# Altium footprint library GCMLibreriasPCB.PcbLib: 49 footprints (part 2 of 4)
Each footprint in its own frame and in the unit in brackets; x right, y up, seen from the top. Pads: shape width x height; smd on the part's side, far side on the other; paste and mask are expansions set on the pad; w line width, h text height; cw(c..) or ccw(c..) is an arc to the next point about the centre after c.
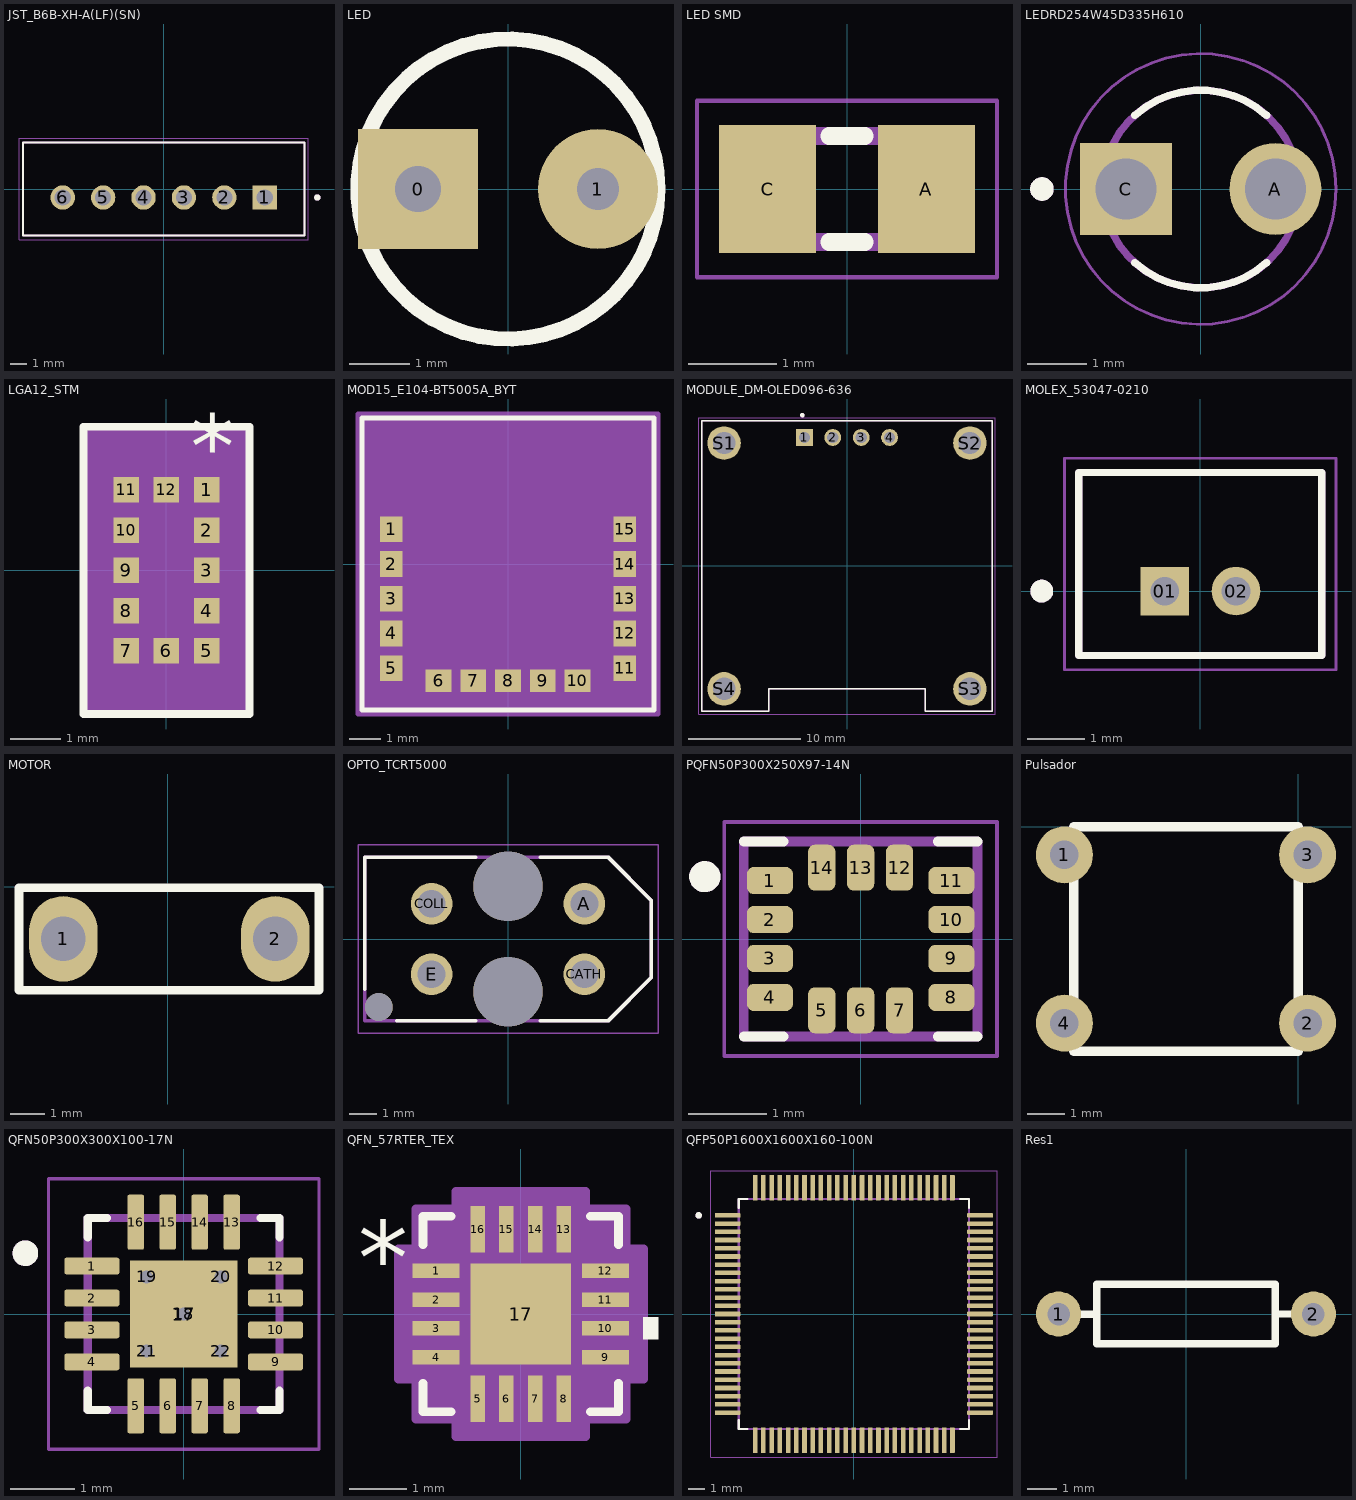
[diagram p1: the footprints below, top view; thin cyan lines are the x and y axes]

## JST_B6B-XH-A(LF)(SN) [mm]
height 7
pads (6):
  rect 1.508x1.508 / inner round 1.508 / far side rect 1.508x1.508 hole 1: 1(6.25,-0.525)
  round 1.508 hole 1: 2(3.75,-0.525) 3(1.25,-0.525) 4(-1.25,-0.525) 5(-3.75,-0.525) 6(-6.25,-0.525)
Top Overlay:
  circle w0.2: c9.5,-0.525 r0.1
  lines w0.127: -8.7,-2.875 8.7,-2.875 8.7,2.875 -8.7,2.875 -8.7,-2.875
Mechanical 13:
  circle w0.2: c9.5,-0.525 r0.1
  lines w0.127: -8.7,-2.875 8.7,-2.875 8.7,2.875 -8.7,2.875 -8.7,-2.875
Mechanical 15:
  lines w0.05: -8.95,-3.125 8.95,-3.125 8.95,3.125 -8.95,3.125 -8.95,-3.125
3D body "step_temp.STEP": height 7, standoff -3.4, extent -8.7,-2.875 8.7,2.875

## LED [mm]
pads (2):
  rect 2x2 hole 0.762: 0(-1.5,0)
  round 2 hole 0.7: 1(1.5,0)
Top Overlay:
  circle w0.254: c0,0 r2.5
3D body "WP7113LSRD.STEP": height 9.6, standoff -26, extent -2.979,-2.921 2.471,2.979

## LED SMD [mm] "0805"
pads (2):
  rect 1.1x1.45 smd: A(0.9,0) C(-0.9,0)
Top Overlay:
  lines w0.2: -0.2,-0.6 0.2,-0.6 ; -0.2,0.6 0.2,0.6
Mechanical 13:
  region: -0.5,-0.6 -1,-0.6 -1,0.6 -0.5,0.6
  region: 1,-0.6 0.5,-0.6 0.5,0.6 1,0.6
  lines w0.2: -1,-0.6 1,-0.6 1,0.6 -1,0.6 -1,-0.6
Mechanical 15:
  lines w0.05: -1.7,-1 1.7,-1 1.7,1 -1.7,1 -1.7,-1
3D body "597-5311-402F.STEP": height 0.7, standoff 0, extent -0.949,-0.65 1.051,0.6

## LEDRD254W45D335H610 [mm]
pads (2):
  round 1.56 hole 1.04: A(1.27,0)
  rect 1.56x1.56 hole 1.04: C(-1.27,0)
Top Overlay:
  circle w0.2: c-2.7,0 r0.1
  lines w0.127: -1.12,-1.25 ccw(c0,-0.006) 1.12,-1.25 ; -1.12,1.25 cw(c0,0.006) 1.12,1.25
Mechanical 13:
  circle w0.127: c0,0 r1.68
  circle w0.2: c-2.7,0 r0.1
Mechanical 15:
  circle w0.05: c0,0 r2.3

## LGA12_STM [mil]
pads (12):
  rect 20x20 smd paste+0 mask+0: 1(31.5,62.99) 2(31.5,31.5) 3(31.5,0) 4(31.5,-31.5) 5(31.5,-62.99) 6(0,-62.99) 7(-31.5,-62.99) 8(-31.5,-31.5) 9(-31.5,0) 10(-31.5,31.5) 11(-31.5,62.99) 12(0,62.99)
Top Overlay:
  lines w6: -65,-112.5 -65,112.5 65,112.5 65,-112.5 -65,-112.5
  text "*" at 19,72.5 h50
Mechanical 13:
  lines w1: 0,97.5 50,47.5 ; -50,-97.5 -50,97.5 50,97.5 50,-97.5 -50,-97.5
  text "*" at 37.5,37.99 h50
Mechanical 15:
  region: -20,-107.5 -60,-107.5 -60,-82.99 -60,82.99 -60,107.5 -20,107.5 20,107.5 60,107.5 60,82.99 60,-82.99 60,-107.5 20,-107.5
  lines w6: -60,-107.5 -20,-107.5 20,-107.5 60,-107.5 60,-82.99 60,82.99 60,107.5 20,107.5 -20,107.5 -60,107.5 -60,82.99 -60,-82.99 -60,-107.5

## MOD15_E104-BT5005A_BYT [mil]
pads (15):
  rect 28x32 smd paste+0 mask+0: 1(-145.67,43.31) 2(-145.67,0) 3(-145.67,-43.31) 4(-145.67,-86.61) 5(-145.67,-129.92) 11(145.67,-129.92) 12(145.67,-86.61) 13(145.67,-43.31) 14(145.67,0) 15(145.67,43.31)
  rect 32x28 smd paste+0 mask+0: 6(-86.61,-145.67) 7(-43.31,-145.67) 8(0,-145.67) 9(43.31,-145.67) 10(86.61,-145.67)
Top Overlay:
  lines w6: -182,-182 -182,182 182,182 182,-182 -182,-182
Mechanical 13:
  lines w1: -177,-177 177,-177 177,177 -177,177 -177,-177
Mechanical 15:
  region: -187,-187 187,-187 187,187 -187,187
  lines w6: -187,-187 187,-187 187,187 -187,187 -187,-187

## MODULE_DM-OLED096-636 [mm]
height 11.3
pads (8):
  rect 1.508x1.508 / inner round 1.508 / far side rect 1.508x1.508 hole 1: 1(-3.81,11.5)
  round 1.508 hole 1: 2(-1.27,11.5) 3(1.27,11.5) 4(3.81,11.5)
  round 3 hole 2: S1(-11,11) S2(11,11) S3(11,-11) S4(-11,-11)
Top Overlay:
  circle w0.2: c-4,13.5 r0.1
  lines w0.127: -13,-13 -13,13 13,13 13,-13 7,-13 7,-11 -7,-11 -7,-13 -13,-13
Mechanical 13:
  circle w0.2: c-4,13.5 r0.1
  lines w0.127: -13,-13 -13,13 13,13 13,-13 7,-13 7,-11 -7,-11 -7,-13 -13,-13
Mechanical 15:
  lines w0.05: -13.25,-13.25 -13.25,13.25 13.25,13.25 13.25,-13.25 -13.25,-13.25
3D body "step_temp.STEP": height 5.66, standoff -5.64, extent -13,-13 13,13

## MOLEX_53047-0210 [mm]
pads (2):
  rect 0.85x0.85 / inner round 0.85 / far side rect 0.85x0.85 hole 0.5: 01(-0.625,0)
  round 0.85 hole 0.5: 02(0.625,0)
Top Overlay:
  circle w0.2: c-2.775,0 r0.1
  lines w0.127: -2.125,-1.125 -2.125,2.075 2.125,2.075 2.125,-1.125 -2.125,-1.125
Mechanical 13:
  circle w0.2: c-2.775,0 r0.1
  lines w0.127: -2.125,-1.125 -2.125,2.075 2.125,2.075 2.125,-1.125 -2.125,-1.125
Mechanical 15:
  lines w0.05: -2.375,-1.375 -2.375,2.325 2.375,2.325 2.375,-1.375 -2.375,-1.375

## MOTOR [mm]
pads (2):
  oval 2x2.5 hole 1.3: 1(-3.048,-1.524) 2(3.152,-1.524)
Top Overlay:
  lines w0.254: -4.346,-3.025 -4.346,-0.028 4.427,-0.028 4.427,-3.025 -4.346,-3.025
3D body "1717T_SR.stp": height 8.5, standoff -8.5, extent -8.359,-3.175 8.613,26.125
3D body "MTMM-101-05-T-S-208.stp": height 6.78, standoff -2.79, extent -4.048,-2.523 -2.048,-0.524
3D body "MTMM-101-05-T-S-208.stp": height 6.78, standoff -2.79, extent 2.152,-2.523 4.152,-0.524

## OPTO_TCRT5000 [mm]
pads (7):
  round 1.5 hole 1: A(2.75,1.27) CATH(2.75,-1.27) COLL(-2.75,1.27) E(-2.75,-1.27)
  round 1 hole 1 unplated: ""(-4.65,-2.45)
  round 2.5 hole 2.5 unplated: ""(0,-1.9) ""(0,1.9)
Top Overlay:
  lines w0.127: -5.15,-1.8 -5.15,2.95 -1.17,2.95 ; -4,-2.95 -1.17,-2.95 ; 1.17,-2.95 3.6,-2.95 5.15,-1.4 5.15,1.4 3.6,2.95 1.17,2.95
Mechanical 13:
  lines w0.127: -5.15,-2.95 -5.15,2.95 3.6,2.95 5.15,1.4 5.15,-1.4 3.6,-2.95 -5.15,-2.95
Mechanical 15:
  lines w0.05: -5.4,-3.4 -5.4,3.4 5.4,3.4 5.4,-3.4 -5.4,-3.4

## PQFN50P300X250X97-14N [mm]
pads (14):
  rrect50% 0.59x0.35 smd mask+0: 1(-1.165,0.75) 2(-1.165,0.25) 3(-1.165,-0.25) 4(-1.165,-0.75) 8(1.165,-0.75) 9(1.165,-0.25) 10(1.165,0.25) 11(1.165,0.75)
  rrect50% 0.35x0.59 smd mask+0: 5(-0.5,-0.915) 6(0,-0.915) 7(0.5,-0.915) 12(0.5,0.915) 13(0,0.915) 14(-0.5,0.915)
Top Overlay:
  circle w0.2: c-2,0.8 r0.1
  lines w0.127: -1.5,-1.25 -0.99,-1.25 ; -1.5,1.25 -0.99,1.25 ; 0.99,-1.25 1.5,-1.25 ; 0.99,1.25 1.5,1.25
Top Solder:
  drawing of 14 lines, arcs and shapes, not listed
Mechanical 13:
  circle w0.2: c-2,0.8 r0.1
  lines w0.127: -1.5,-1.25 -1.5,1.25 1.5,1.25 1.5,-1.25 -1.5,-1.25
Mechanical 15:
  lines w0.05: -1.75,-1.5 -1.75,1.5 1.75,1.5 1.75,-1.5 -1.75,-1.5
3D body "ICM-42688-P--3DModel-STEP-1.STEP": height 0.97, standoff 0, extent -1.5,-1.27 1.5,1.23

## Pulsador [mil]
pads (4):
  round 60 hole 30: 1(-246.06,-29.53) 2(9.84,-206.69) 3(9.84,-29.53) 4(-246.06,-206.69)
Top Overlay:
  lines w10: -236.22,-236.22 0,-236.22 0,0 -236.22,0 -236.22,-236.22

## QFN50P300X300X100-17N [mm]
pads (22):
  rrect25% 0.86x0.26 smd: 1(-1.435,0.75) 2(-1.435,0.25) 3(-1.435,-0.25) 4(-1.435,-0.75) 9(1.435,-0.75) 10(1.435,-0.25) 11(1.435,0.25) 12(1.435,0.75)
  rrect25% 0.26x0.86 smd: 5(-0.75,-1.435) 6(-0.25,-1.435) 7(0.25,-1.435) 8(0.75,-1.435) 13(0.75,1.435) 14(0.25,1.435) 15(-0.25,1.435) 16(-0.75,1.435)
  rect 1.68x1.68 smd paste-0.31: 17(0,0)
  round 0.4 hole 0.2 mask+0: 18(0,0) 19(-0.58,0.58) 20(0.58,0.58) 21(-0.58,-0.58) 22(0.58,-0.58)
Top Overlay:
  circle w0.2: c-2.475,0.95 r0.1
  lines w0.127: -1.5,-1.2 -1.5,-1.5 -1.2,-1.5 ; -1.5,1.2 -1.5,1.5 -1.2,1.5 ; 1.2,-1.5 1.5,-1.5 1.5,-1.2 ; 1.2,1.5 1.5,1.5 1.5,1.2
Mechanical 13:
  circle w0.2: c-2.475,0.95 r0.1
  lines w0.127: -1.5,-1.5 -1.5,1.5 1.5,1.5 1.5,-1.5 -1.5,-1.5
Mechanical 15:
  lines w0.05: -2.115,-2.115 -2.115,2.115 2.115,2.115 2.115,-2.115 -2.115,-2.115
3D body "step_temp.STEP": height 1, standoff 0, extent -1.5,-1.5 1.5,1.5

## QFN_57RTER_TEX [mil]
pads (17):
  rect 32x10 smd paste+0 mask+0: 1(-58,29.54) 2(-58,9.85) 3(-58,-9.85) 4(-58,-29.54) 9(58,-29.54) 10(58,-9.85) 11(58,9.85) 12(58,29.54)
  rect 10x32 smd paste+0 mask+0: 5(-29.54,-58) 6(-9.85,-58) 7(9.85,-58) 8(29.54,-58) 13(29.54,58) 14(9.85,58) 15(-9.85,58) 16(-29.54,58)
  rect 69x69 smd paste+0 mask+0: 17(0,0)
Top Overlay:
  region: 84,-2.35 94,-2.35 94,-17.34 84,-17.34
  lines w6: -67,-47.63 -67,-67 -47.63,-67 ; -67,47.63 -67,67 -47.63,67 ; 47.63,-67 67,-67 67,-47.63 ; 47.63,67 67,67 67,47.63
  text "*" at -111.5,14.38 h50
Mechanical 13:
  lines w1: -62,12 -12,62 ; -62,-62 -62,62 62,62 62,-62 -62,-62 ; -62,-35.53 -62,-23.54 -62,-35.53 ; -62,-15.85 -62,-3.85 -62,-15.85 ; -62,3.85 -62,15.85 -62,3.85 ; -62,23.54 -62,35.53 -62,23.54 ; -35.53,-62 -23.54,-62 -35.53,-62 ; -35.53,62 -23.54,62 -35.53,62 ; -15.85,-62 -3.85,-62 -15.85,-62 ; -15.85,62 -3.85,62 -15.85,62 ; 3.85,-62 15.85,-62 3.85,-62 ; 3.85,62 15.85,62 3.85,62 ; 23.54,-62 35.53,-62 23.54,-62 ; 23.54,62 35.53,62 23.54,62 ; 62,-35.53 62,-23.54 62,-35.53 ; 62,-15.85 62,-3.85 62,-15.85 ; 62,3.85 62,15.85 62,3.85 ; 62,23.54 62,35.53 62,23.54
  text "*" at -54.5,14.38 h50
Mechanical 15:
  region: -44.53,-72 -72,-72 -72,-44.53 -84,-44.53 -84,44.53 -72,44.53 -72,72 -44.53,72 -44.53,84 44.53,84 44.53,72 72,72 72,44.53 84,44.53 84,-44.53 72,-44.53 72,-72 44.53,-72 44.53,-84 -44.53,-84
  lines w6: -84,-44.53 -84,44.53 -72,44.53 -72,72 -44.53,72 -44.53,84 44.53,84 44.53,72 72,72 72,44.53 84,44.53 84,-44.53 72,-44.53 72,-72 44.53,-72 44.53,-84 -44.53,-84 -44.53,-72 -72,-72 -72,-44.53 -84,-44.53
3D body "QFN_57RTER_TEX.step": height 32.09, standoff 0, extent -62.01,-62.01 62.01,62.01

## QFP50P1600X1600X160-100N [mm]
height 1.6
pads (100):
  rrect25% 1.56x0.28 smd: 1(-7.68,6) 2(-7.68,5.5) 3(-7.68,5) 4(-7.68,4.5) 5(-7.68,4) 6(-7.68,3.5) 7(-7.68,3) 8(-7.68,2.5) 9(-7.68,2) 10(-7.68,1.5) 11(-7.68,1) 12(-7.68,0.5) 13(-7.68,0) 14(-7.68,-0.5) 15(-7.68,-1) 16(-7.68,-1.5) 17(-7.68,-2) 18(-7.68,-2.5) 19(-7.68,-3) 20(-7.68,-3.5) 21(-7.68,-4) 22(-7.68,-4.5) 23(-7.68,-5) 24(-7.68,-5.5) 25(-7.68,-6) 51(7.68,-6) 52(7.68,-5.5) 53(7.68,-5) 54(7.68,-4.5) 55(7.68,-4) 56(7.68,-3.5) 57(7.68,-3) 58(7.68,-2.5) 59(7.68,-2) 60(7.68,-1.5) 61(7.68,-1) 62(7.68,-0.5) 63(7.68,0) 64(7.68,0.5) 65(7.68,1) 66(7.68,1.5) 67(7.68,2) 68(7.68,2.5) 69(7.68,3) 70(7.68,3.5) 71(7.68,4) 72(7.68,4.5) 73(7.68,5) 74(7.68,5.5) 75(7.68,6)
  rrect25% 0.28x1.56 smd: 26(-6,-7.68) 27(-5.5,-7.68) 28(-5,-7.68) 29(-4.5,-7.68) 30(-4,-7.68) 31(-3.5,-7.68) 32(-3,-7.68) 33(-2.5,-7.68) 34(-2,-7.68) 35(-1.5,-7.68) 36(-1,-7.68) 37(-0.5,-7.68) 38(0,-7.68) 39(0.5,-7.68) 40(1,-7.68) 41(1.5,-7.68) 42(2,-7.68) 43(2.5,-7.68) 44(3,-7.68) 45(3.5,-7.68) 46(4,-7.68) 47(4.5,-7.68) 48(5,-7.68) 49(5.5,-7.68) 50(6,-7.68) 76(6,7.68) 77(5.5,7.68) 78(5,7.68) 79(4.5,7.68) 80(4,7.68) 81(3.5,7.68) 82(3,7.68) 83(2.5,7.68) 84(2,7.68) 85(1.5,7.68) 86(1,7.68) 87(0.5,7.68) 88(0,7.68) 89(-0.5,7.68) 90(-1,7.68) 91(-1.5,7.68) 92(-2,7.68) 93(-2.5,7.68) 94(-3,7.68) 95(-3.5,7.68) 96(-4,7.68) 97(-4.5,7.68) 98(-5,7.68) 99(-5.5,7.68) 100(-6,7.68)
Top Overlay:
  circle w0.2: c-9.44,6 r0.1
  lines w0.127: -7,-6.46 -7,-7 -6.46,-7 ; -7,6.46 -7,7 -6.46,7 ; 6.46,-7 7,-7 7,-6.46 ; 6.46,7 7,7 7,6.46
Mechanical 13:
  circle w0.2: c-9.44,6 r0.1
  lines w0.127: -7,-7 7,-7 7,7 -7,7 -7,-7
Mechanical 15:
  lines w0.05: -8.71,-8.71 8.71,-8.71 8.71,8.71 -8.71,8.71 -8.71,-8.71
3D body "step_temp.STEP": height 1.6, standoff 0, extent -8,-8 8,8

## Res1 [mil]
pads (2):
  round 60 hole 30: 1(-170,0) 2(170,0)
Top Overlay:
  lines w10: -170,0 -119.29,0 ; 120,0 170,0 ; -119.29,-39.37 119.29,-39.37 119.29,39.37 -119.29,39.37 -119.29,-39.37
3D body "3-1623927-1--3DModel-STEP-1.STEP": height 72.83, standoff -928.15, extent -145.86,-37.98 147.45,34.85